# Altium footprint library PcbLib1.PcbLib: 41 footprints (part 1 of 3)
Each footprint in its own frame and in the unit in brackets; x right, y up, seen from the top. Pads: shape width x height; smd on the part's side, far side on the other; paste and mask are expansions set on the pad; w line width, h text height; cw(c..) or ccw(c..) is an arc to the next point about the centre after c.
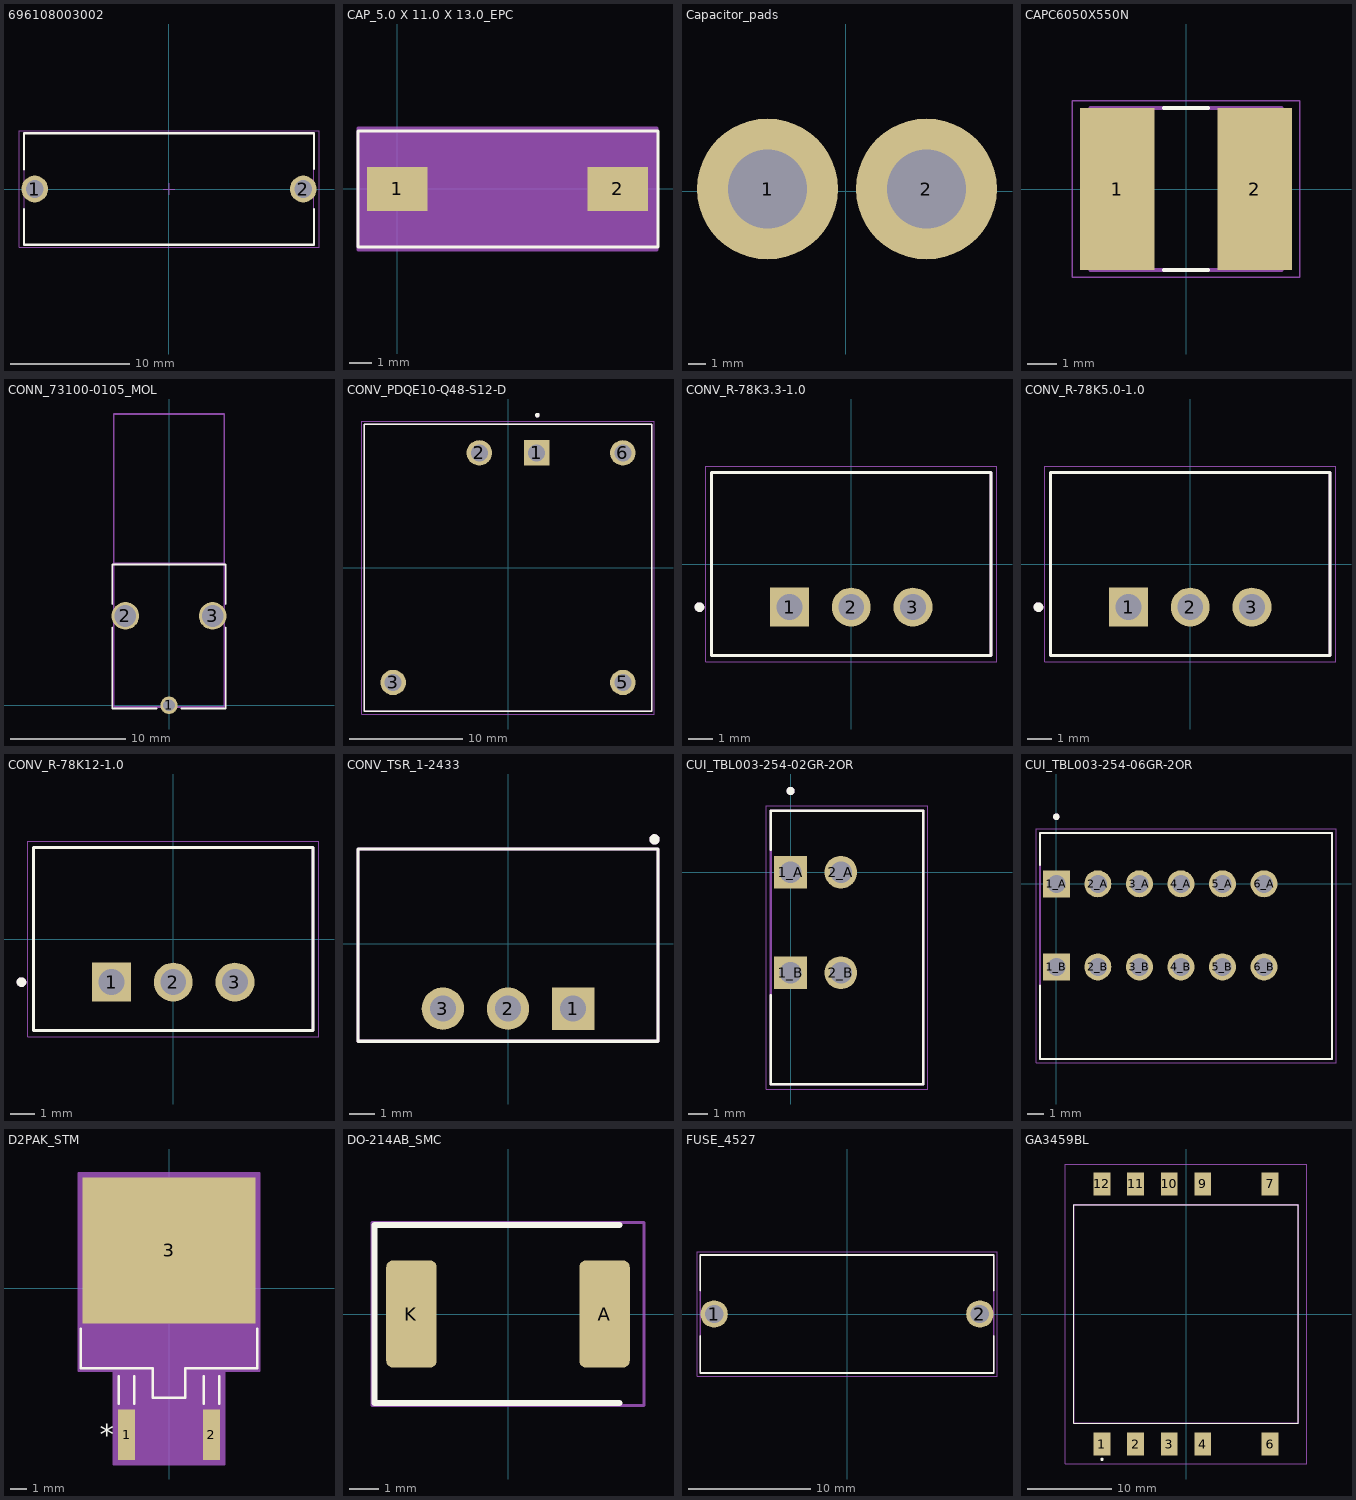
[diagram p0: the footprints below, top view; thin cyan lines are the x and y axes]

## 696108003002 [mm] "FUSEHOLDER BLOCKS - PCB - CLIP COVER - THT"
height 11.5
pads (2):
  round 2.25 hole 1.5: 1(-11.3,0) 2(11.3,0)
Top Overlay:
  lines w0.2: -12.2,-1.7 -12.2,-4.7 12.2,-4.7 12.2,-1.7 ; -12.2,1.651 -12.2,4.7 12.2,4.7 12.2,1.7
Top 3D Body:
  lines w0.1: -12.2,-4.7 12.2,-4.7 12.2,4.7 -12.2,4.7 -12.2,-4.7
Top Courtyard:
  lines w0.05: -0.5,0 0.5,0 ; 0,-0.5 0,0.5 ; -12.625,-4.9 12.625,-4.9 12.625,4.9 -12.625,4.9 -12.625,-4.9
Top Component Outline:
  lines w0.1: -12.2,-4.7 -12.2,4.7 12.2,4.7 12.2,-4.7 -12.2,-4.7
3D body "696108003002 - PTF_78.stp": height 11.55, standoff -3.45, extent -12.2,-4.7 12.2,4.7

## CAP_5.0 X 11.0 X 13.0_EPC [mm]
pads (2):
  rect 2.75x2 smd: 1(0,0) 2(9.982,0)
Top Overlay:
  lines w0.152: -1.778,-2.629 -1.778,2.629 11.811,2.629 11.811,-2.629 -1.778,-2.629
Mechanical 13:
  lines w0.025: -1.511,-2.502 11.493,-2.502 11.493,2.502 -1.511,2.502 -1.511,-2.502
Mechanical 15:
  region: 11.747,-2.756 -1.765,-2.756 -1.765,2.756 11.747,2.756
  lines w0.152: -1.765,-2.756 -1.765,2.756 11.747,2.756 11.747,-2.756 -1.765,-2.756
3D body "CAP_50X110X130_EPC.step": height 15.5, standoff 0.13, extent -1.511,-2.502 11.494,2.502

## Capacitor_pads [mm]
pads (2):
  round 8 hole 4.5: 1(-4.445,0.127) 2(4.572,0.127)

## CAPC6050X550N [mm]
pads (2):
  rect 2.53x5.51 smd: 1(-2.336,0) 2(2.336,0)
Top Overlay:
  lines w0.127: -0.75,-2.75 0.75,-2.75 ; -0.75,2.75 0.75,2.75
Mechanical 13:
  lines w0.127: -3.25,-2.75 3.25,-2.75 3.25,2.75 -3.25,2.75 -3.25,-2.75
Mechanical 15:
  lines w0.05: -3.853,-3.003 3.853,-3.003 3.853,3.003 -3.853,3.003 -3.853,-3.003
3D body "step_temp.STEP": height 5.5, standoff 0, extent -3,-2.5 3,2.5

## CONN_73100-0105_MOL [mil]
pads (3):
  round 60 hole 40: 1(0,0)
  round 95 hole 75: 2(-150,307) 3(150,307)
Top Overlay:
  lines w6: -195,267 -195,-11 -42,-11 ; -195,347 -195,483 195,483 195,347 ; 42,-11 195,-11 195,267
Mechanical 13:
  lines w6: -190,488 -190,1000 190,1000 190,488 ; -190,488 190,488 ; -190,488 -190,-6 190,-6 190,488
3D body "731000105.stp": height 366.87, standoff -116.87, extent -189.96,-2.95 189.96,1002.95

## CONV_PDQE10-Q48-S12-D [mm]
pads (5):
  rect 2.25x2.25 hole 1.5: 1(2.54,10.16)
  round 2.25 hole 1.5: 2(-2.54,10.16) 3(-10.16,-10.16) 5(10.16,-10.16) 6(10.16,10.16)
Top Overlay:
  circle w0.2: c2.6,13.5 r0.1
  lines w0.127: -12.7,-12.7 -12.7,12.7 12.7,12.7 12.7,-12.7 -12.7,-12.7
Mechanical 13:
  circle w0.2: c2.6,13.5 r0.1
  lines w0.127: -12.7,-12.7 -12.7,12.7 12.7,12.7 12.7,-12.7 -12.7,-12.7
Mechanical 15:
  lines w0.05: -12.95,-12.95 -12.95,12.95 12.95,12.95 12.95,-12.95 -12.95,-12.95
3D body "step_temp.STEP": height 11.7, standoff -4.1, extent -12.7,-12.7 12.7,12.7

## CONV_R-78K3.3-1.0 [mm]
height 10.7
pads (3):
  rect 1.605x1.605 / inner round 1.605 / far side rect 1.605x1.605 hole 1.07: 1(-2.54,-1.775)
  round 1.605 hole 1.07: 2(0,-1.775) 3(2.54,-1.775)
Top Overlay:
  circle w0.2: c-6.25,-1.775 r0.1
  lines w0.127: -5.75,-3.775 -5.75,3.775 5.75,3.775 5.75,-3.775 -5.75,-3.775
Mechanical 13:
  circle w0.2: c-6.25,-1.775 r0.1
  lines w0.127: -5.75,-3.775 -5.75,3.775 5.75,3.775 5.75,-3.775 -5.75,-3.775
Mechanical 15:
  lines w0.05: -6,-4.025 6,-4.025 6,4.025 -6,4.025 -6,-4.025
3D body "step_temp.STEP": height 10.2, standoff -4.1, extent -5.75,-3.775 5.75,3.775

## CONV_R-78K5.0-1.0 [mm]
height 10.7
pads (3):
  rect 1.605x1.605 / inner round 1.605 / far side rect 1.605x1.605 hole 1.07: 1(-2.54,-1.775)
  round 1.605 hole 1.07: 2(0,-1.775) 3(2.54,-1.775)
Top Overlay:
  circle w0.2: c-6.25,-1.775 r0.1
  lines w0.127: -5.75,-3.775 -5.75,3.775 5.75,3.775 5.75,-3.775 -5.75,-3.775
Mechanical 13:
  circle w0.2: c-6.25,-1.775 r0.1
  lines w0.127: -5.75,-3.775 -5.75,3.775 5.75,3.775 5.75,-3.775 -5.75,-3.775
Mechanical 15:
  lines w0.05: -6,-4.025 6,-4.025 6,4.025 -6,4.025 -6,-4.025
3D body "step_temp.STEP": height 10.2, standoff -4.1, extent -5.75,-3.775 5.75,3.775

## CONV_R-78K12-1.0 [mm]
height 10.7
pads (3):
  rect 1.605x1.605 / inner round 1.605 / far side rect 1.605x1.605 hole 1.07: 1(-2.54,-1.775)
  round 1.605 hole 1.07: 2(0,-1.775) 3(2.54,-1.775)
Top Overlay:
  circle w0.2: c-6.25,-1.775 r0.1
  lines w0.127: -5.75,-3.775 5.75,-3.775 5.75,3.775 -5.75,3.775 -5.75,-3.775
Mechanical 13:
  circle w0.2: c-6.25,-1.775 r0.1
  lines w0.127: -5.75,-3.775 5.75,-3.775 5.75,3.775 -5.75,3.775 -5.75,-3.775
Mechanical 15:
  lines w0.05: -6,-4.025 -6,4.025 6,4.025 6,-4.025 -6,-4.025
3D body "step_temp.STEP": height 10.2, standoff -4.1, extent -5.75,-3.775 5.75,3.775

## CONV_TSR_1-2433 [mil]
pads (3):
  rect 65x65 hole 40: 1(100,-100)
  round 65 hole 40: 2(0,-100) 3(-100,-100)
Top Overlay:
  circle w7.87: c225,160 r3.94
  lines w5: -230.31,-150 230.31,-150 230.31,145 -230.31,145 -230.31,-150
Mechanical 13:
  circle w7.87: c225,160 r3.94
  lines w5: -230.31,-150 230.31,-150 230.31,145 -230.31,145 -230.31,-150
Mechanical 15:
  lines w1.97: -230,-150 -230,145 230,145 230,-150 -230,-150
3D body "N7803-1PV.stp": height 634.96, standoff -194.96, extent -206.69,-112.6 206.69,198.43

## CUI_TBL003-254-02GR-2OR [mm]
pads (4):
  rect 1.65x1.65 / inner round 1.65 / far side rect 1.65x1.65 hole 1.1: 1_A(0,0) 1_B(0,-5.08)
  round 1.65 hole 1.1: 2_A(2.54,0) 2_B(2.54,-5.08)
Top Overlay:
  circle w0.2: c0,4.1 r0.1
  lines w0.127: -0.99,-6.225 -0.99,-10.7 6.69,-10.7 6.69,3.1 -0.99,3.1 -0.99,1.145
Mechanical 13:
  circle w0.2: c0,4.1 r0.1
  lines w0.127: -0.99,-10.7 -0.99,3.1 6.69,3.1 6.69,-10.7 -0.99,-10.7
Mechanical 15:
  lines w0.05: -1.24,-10.95 6.94,-10.95 6.94,3.35 -1.24,3.35 -1.24,-10.95
3D body "step_temp.STEP": height 12.75, standoff -3.5, extent -1.016,-10.71 6.664,3.09

## CUI_TBL003-254-06GR-2OR [mm]
pads (12):
  rect 1.65x1.65 / inner round 1.65 / far side rect 1.65x1.65 hole 1.1: 1_A(0,0) 1_B(0,-5.08)
  round 1.65 hole 1.1: 2_A(2.54,0) 2_B(2.54,-5.08) 3_A(5.08,0) 3_B(5.08,-5.08) 4_A(7.62,0) 4_B(7.62,-5.08) 5_A(10.16,0) 5_B(10.16,-5.08) 6_A(12.7,0) 6_B(12.7,-5.08)
Top Overlay:
  circle w0.2: c0,4.1 r0.1
  lines w0.127: -0.99,-6.225 -0.99,-10.7 16.85,-10.7 16.85,3.1 -0.99,3.1 -0.99,1.145
Mechanical 13:
  circle w0.2: c0,4.1 r0.1
  lines w0.127: -0.99,-10.7 -0.99,3.1 16.85,3.1 16.85,-10.7 -0.99,-10.7
Mechanical 15:
  lines w0.05: -1.24,-10.95 17.1,-10.95 17.1,3.35 -1.24,3.35 -1.24,-10.95
3D body "step_temp.STEP": height 12.75, standoff -3.5, extent -0.94,-10.7 16.9,3.1

## D2PAK_STM [mil]
pads (3):
  rect 39x118 smd paste+0 mask+0: 1(-100,-345) 2(100,-345)
  rect 407x343 smd paste+0 mask+0: 3(0,88.5)
Top Overlay:
  lines w6: -207.5,-95.47 -207.5,-189 -38.5,-189 -38.5,-258 38.5,-258 38.5,-189 207.5,-189 207.5,-95.47 ; -118.5,-272 -118.5,-208 ; -81.5,-272 -81.5,-208 ; 81.5,-272 81.5,-208 ; 118.5,-272 118.5,-208
  text "*" at -162.5,-370 h50
Mechanical 13:
  lines w1: -202.5,-184 202.5,-184 202.5,184 -202.5,184 -202.5,-184 ; -118.5,-390 -118.5,-184 -81.5,-184 -81.5,-390 -118.5,-390 ; -33.5,-253 -33.5,-184 33.5,-184 33.5,-253 -33.5,-253 ; 81.5,-390 81.5,-184 118.5,-184 118.5,-390 81.5,-390
Mechanical 15:
  region: -212.5,-194 -212.5,194 -212.5,270 212.5,270 212.5,194 212.5,-194 129.5,-194 129.5,-414 -129.5,-414 -129.5,-194
  lines w6: -212.5,-194 -212.5,194 -212.5,270 212.5,270 212.5,194 212.5,-194 129.5,-194 129.5,-414 -129.5,-414 -129.5,-194 -212.5,-194

## DO-214AB_SMC [mm]
pads (2):
  rrect25% 1.7x3.6 smd: A(3.25,0) K(-3.25,0)
Top Overlay:
  lines w0.2: 3.75,-3 -4.5,-3 -4.5,3 3.75,3
Mechanical 15:
  lines w0.1: -4.575,-3.075 4.575,-3.075 4.575,3.075 -4.575,3.075 -4.575,-3.075
3D body "p27_SMC_DO-214AB.stp": height 2.2, standoff 0, extent -3.947,-2.9 3.953,2.9

## FUSE_4527 [mm]
height 10.8
pads (2):
  round 2.25 hole 1.5: 1(-10.92,0) 2(10.92,0)
Top Overlay:
  lines w0.127: -12.08,-1.778 -12.08,-4.85 12.08,-4.85 12.08,-1.778 ; -12.08,1.905 -12.08,4.85 12.08,4.85 12.08,1.905
Mechanical 13:
  lines w0.127: -12.08,-4.85 12.08,-4.85 12.08,4.85 -12.08,4.85 -12.08,-4.85
Mechanical 15:
  lines w0.05: -12.33,-5.1 12.33,-5.1 12.33,5.1 -12.33,5.1 -12.33,-5.1
3D body "step_temp.STEP": height 10.79, standoff -4.17, extent -12.078,-4.851 12.078,4.851

## GA3459BL [mm]
pads (10):
  rect 2x2.75 smd: 1(-10,-15.475) 2(-6,-15.475) 3(-2,-15.475) 4(2,-15.475) 6(10,-15.475) 7(10,15.475) 9(2,15.475) 10(-2,15.475) 11(-6,15.475) 12(-10,15.475)
Top Overlay:
  lines w0.1: -13.375,-13 -13.375,13 13.375,13 13.375,-13 -13.375,-13
  lines w0.2: -10.1,-17.3 ccw(c-10,-17.3) -9.9,-17.3 ccw(c-10,-17.3) -10.1,-17.3
Mechanical 15:
  lines w0.2: -13.375,-13 -13.375,13 13.375,13 13.375,-13 -13.375,-13
Mechanical 20:
  lines w0.1: -14.375,-17.85 -14.375,17.85 14.375,17.85 14.375,-17.85 -14.375,-17.85
3D body "GA3459-BL.stp": height 13.6, standoff -0.4, extent -13.385,-16.33 13.385,16.33